# EAGLE library part PIC16F15368 (library BW-Active)
8-bit 32MHz microcontroller, 48-pin
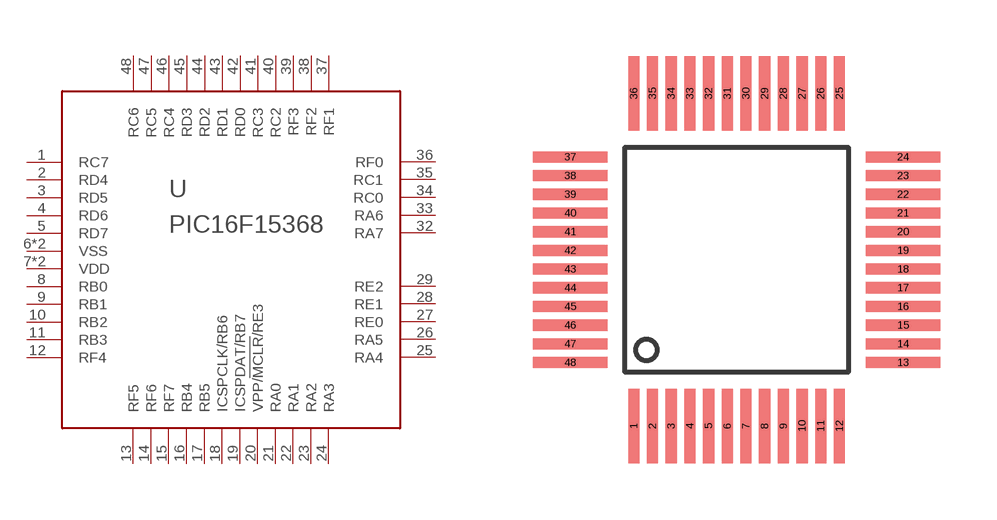
[diagram p9: symbol with the pads of TQFP48; footprint TQFP48]

Designator prefix U

## PIC16F15368  [TQFP48]
1  RC7
2  RD4
3  RD5
4  RD6
5  RD7
6  VSS
7  VDD
8  RB0
9  RB1
10  RB2
11  RB3
12  RF4
13  RF5
14  RF6
15  RF7
16  RB4
17  RB5
18  ICSPCLK/RB6
19  ICSPDAT/RB7
20  VPP/!MCLR!/RE3
21  RA0
22  RA1
23  RA2
24  RA3
25  RA4
26  RA5
27  RE0
28  RE1
29  RE2
30  VDD
31  VSS
32  RA7
33  RA6
34  RC0
35  RC1
36  RF0
37  RF1
38  RF2
39  RF3
40  RC2
41  RC3
42  RD0
43  RD1
44  RD2
45  RD3
46  RC4
47  RC5
48  RC6

## Footprint TQFP48 (pad centres in mm)
smd 0.3 x 2: 1 -2.75,-4.45; 2 -2.25,-4.45; 3 -1.75,-4.45; 4 -1.25,-4.45; 5 -0.75,-4.45; 6 -0.25,-4.45; 7 0.25,-4.45; 8 0.75,-4.45; 9 1.25,-4.45; 10 1.75,-4.45; 11 2.25,-4.45; 12 2.75,-4.45; 25 2.75,4.45; 26 2.25,4.45; 27 1.75,4.45; 28 1.25,4.45; 29 0.75,4.45; 30 0.25,4.45; 31 -0.25,4.45; 32 -0.75,4.45; 33 -1.25,4.45; 34 -1.75,4.45; 35 -2.25,4.45; 36 -2.75,4.45
smd 2 x 0.3: 13 4.45,-2.75; 14 4.45,-2.25; 15 4.45,-1.75; 16 4.45,-1.25; 17 4.45,-0.75; 18 4.45,-0.25; 19 4.45,0.25; 20 4.45,0.75; 21 4.45,1.25; 22 4.45,1.75; 23 4.45,2.25; 24 4.45,2.75; 37 -4.45,2.75; 38 -4.45,2.25; 39 -4.45,1.75; 40 -4.45,1.25; 41 -4.45,0.75; 42 -4.45,0.25; 43 -4.45,-0.25; 44 -4.45,-0.75; 45 -4.45,-1.25; 46 -4.45,-1.75; 47 -4.45,-2.25; 48 -4.45,-2.75